# Altium schematic symbol library WE-PD.SchLib: 360 symbols (part 1 of 7)
Pins are listed as number, name and electrical type; pins without a type are passive.

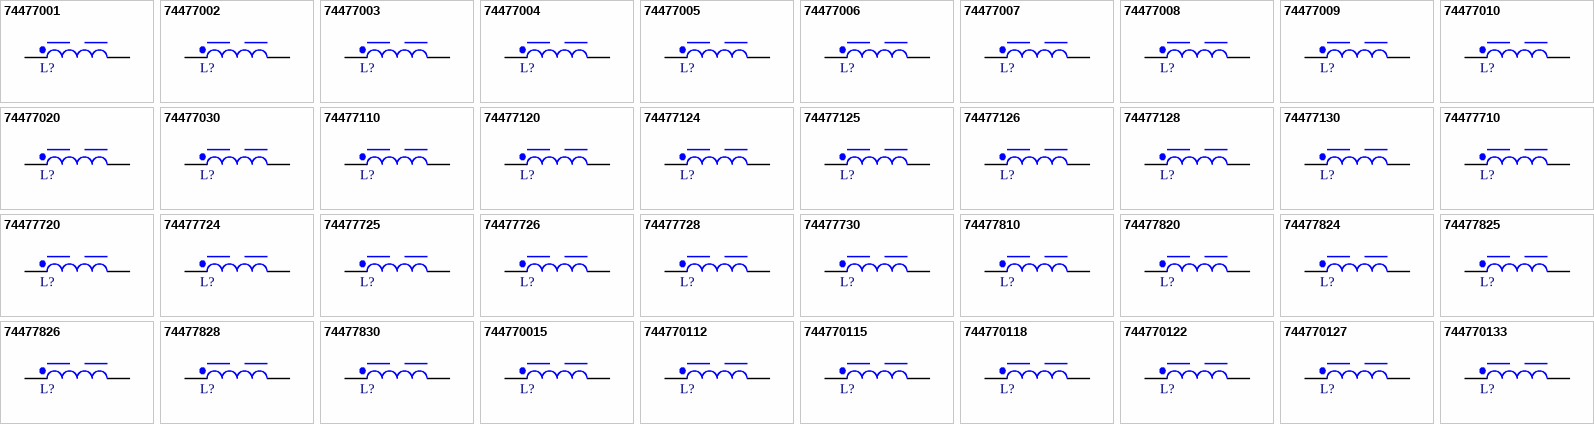
[diagram p0: symbols 74477001 to 744770133]

## 74477001
designator L?, comment 1.2uH, 13.5A  (value not drawn)
WE-PD SMT Power Inductor, size 1280, 1.2uH, 13.5A, 7mOhm; Manufacturer Part Number: 74477001; Manufacturer: Wurth Elektronik; Case/Size Code: 1280; DC Resistance: 4.6mOhm; Saturation Current: 21A; Self Resonant Frequency: 45MHz; Type: Standard; Category: Power Inductors; Match Code: WE-PD; ComponentLink1Description: Website Link; ComponentLink1URL: https://www.we-online.com/redexpert/article/74477001?ad; ComponentLink2Description: Datasheet Link; ComponentLink2URL: https://www.we-online.com/redexpert/spec/74477001?ad; Mount: Surface Mount; Operating Temperature Max: 125°C; Operating Temperature Min: -40°C; Packaging: Tape and Reel; Length: 12mm; Width: 12mm; Height: 8mm; DC Resistance Max: 7mOhm; Inductance: 1.2uH; Rated Current: 13.5A
footprint WE-PD_1280
simulation model 1280_74477001_1.2u
pins: 1, 2

## 74477002
designator L?, comment 2.4uH, 11.5A  (value not drawn)
WE-PD SMT Power Inductor, size 1280, 2.4uH, 11.5A, 9mOhm; Manufacturer Part Number: 74477002; Manufacturer: Wurth Elektronik; Case/Size Code: 1280; DC Resistance: 6.3mOhm; Saturation Current: 15A; Self Resonant Frequency: 41MHz; Type: Standard; Category: Power Inductors; Match Code: WE-PD; ComponentLink1Description: Website Link; ComponentLink1URL: https://www.we-online.com/redexpert/article/74477002?ad; ComponentLink2Description: Datasheet Link; ComponentLink2URL: https://www.we-online.com/redexpert/spec/74477002?ad; Mount: Surface Mount; Operating Temperature Max: 125°C; Operating Temperature Min: -40°C; Packaging: Tape and Reel; Length: 12mm; Width: 12mm; Height: 8mm; DC Resistance Max: 9mOhm; Inductance: 2.4uH; Rated Current: 11.5A
footprint WE-PD_1280
simulation model 1280_74477002_2.4u
pins: 1, 2

## 74477003
designator L?, comment 3.5uH, 10.2A  (value not drawn)
WE-PD SMT Power Inductor, size 1280, 3.5uH, 10.2A, 11mOhm; Manufacturer Part Number: 74477003; Manufacturer: Wurth Elektronik; Case/Size Code: 1280; DC Resistance: 8mOhm; Saturation Current: 12.5A; Self Resonant Frequency: 37.5MHz; Type: Standard; Category: Power Inductors; Match Code: WE-PD; ComponentLink1Description: Website Link; ComponentLink1URL: https://www.we-online.com/redexpert/article/74477003?ad; ComponentLink2Description: Datasheet Link; ComponentLink2URL: https://www.we-online.com/redexpert/spec/74477003?ad; Mount: Surface Mount; Operating Temperature Max: 125°C; Operating Temperature Min: -40°C; Packaging: Tape and Reel; Length: 12mm; Width: 12mm; Height: 8mm; DC Resistance Max: 11mOhm; Inductance: 3.5uH; Rated Current: 10.2A
footprint WE-PD_1280
simulation model 1280_74477003_3.5u
pins: 1, 2

## 74477004
designator L?, comment 4.7uH, 9.5A  (value not drawn)
WE-PD SMT Power Inductor, size 1280, 4.7uH, 9.5A, 12mOhm; Manufacturer Part Number: 74477004; Manufacturer: Wurth Elektronik; Case/Size Code: 1280; DC Resistance: 9mOhm; Saturation Current: 11A; Self Resonant Frequency: 31.2MHz; Type: Standard; Category: Power Inductors; Match Code: WE-PD; ComponentLink1Description: Website Link; ComponentLink1URL: https://www.we-online.com/redexpert/article/74477004?ad; ComponentLink2Description: Datasheet Link; ComponentLink2URL: https://www.we-online.com/redexpert/spec/74477004?ad; Mount: Surface Mount; Operating Temperature Max: 125°C; Operating Temperature Min: -40°C; Packaging: Tape and Reel; Length: 12mm; Width: 12mm; Height: 8mm; DC Resistance Max: 12mOhm; Inductance: 4.7uH; Rated Current: 9.5A
footprint WE-PD_1280
simulation model 1280_74477004_4.7u
pins: 1, 2

## 74477005
designator L?, comment 5.6uH, 8.7A  (value not drawn)
WE-PD SMT Power Inductor, size 1280, 5.6uH, 8.7A, 13.5mOhm; Manufacturer Part Number: 74477005; Manufacturer: Wurth Elektronik; Case/Size Code: 1280; DC Resistance: 10.5mOhm; Saturation Current: 10A; Self Resonant Frequency: 24MHz; Type: Standard; Category: Power Inductors; Match Code: WE-PD; ComponentLink1Description: Website Link; ComponentLink1URL: https://www.we-online.com/redexpert/article/74477005?ad; ComponentLink2Description: Datasheet Link; ComponentLink2URL: https://www.we-online.com/redexpert/spec/74477005?ad; Mount: Surface Mount; Operating Temperature Max: 125°C; Operating Temperature Min: -40°C; Packaging: Tape and Reel; Length: 12mm; Width: 12mm; Height: 8mm; DC Resistance Max: 13.5mOhm; Inductance: 5.6uH; Rated Current: 8.7A
footprint WE-PD_1280
simulation model 1280_74477005_5.6u
pins: 1, 2

## 74477006
designator L?, comment 6.1uH, 8.5A  (value not drawn)
WE-PD SMT Power Inductor, size 1280, 6.1uH, 8.5A, 14mOhm; Manufacturer Part Number: 74477006; Manufacturer: Wurth Elektronik; Case/Size Code: 1280; DC Resistance: 11mOhm; Saturation Current: 9.5A; Self Resonant Frequency: 25MHz; Type: Standard; Category: Power Inductors; Match Code: WE-PD; ComponentLink1Description: Website Link; ComponentLink1URL: https://www.we-online.com/redexpert/article/74477006?ad; ComponentLink2Description: Datasheet Link; ComponentLink2URL: https://www.we-online.com/redexpert/spec/74477006?ad; Mount: Surface Mount; Operating Temperature Max: 125°C; Operating Temperature Min: -40°C; Packaging: Tape and Reel; Length: 12mm; Width: 12mm; Height: 8mm; DC Resistance Max: 14mOhm; Inductance: 6.1uH; Rated Current: 8.5A
footprint WE-PD_1280
simulation model 1280_74477006_6.1u
pins: 1, 2

## 74477007
designator L?, comment 7.6uH, 8.4A  (value not drawn)
WE-PD SMT Power Inductor, size 1280, 7.6uH, 8.4A, 15mOhm; Manufacturer Part Number: 74477007; Manufacturer: Wurth Elektronik; Case/Size Code: 1280; DC Resistance: 11.5mOhm; Saturation Current: 8.5A; Self Resonant Frequency: 21.3MHz; Type: Standard; Category: Power Inductors; Match Code: WE-PD; ComponentLink1Description: Website Link; ComponentLink1URL: https://www.we-online.com/redexpert/article/74477007?ad; ComponentLink2Description: Datasheet Link; ComponentLink2URL: https://www.we-online.com/redexpert/spec/74477007?ad; Mount: Surface Mount; Operating Temperature Max: 125°C; Operating Temperature Min: -40°C; Packaging: Tape and Reel; Length: 12mm; Width: 12mm; Height: 8mm; DC Resistance Max: 15mOhm; Inductance: 7.6uH; Rated Current: 8.4A
footprint WE-PD_1280
simulation model 1280_74477007_7.6u
pins: 1, 2

## 74477008
designator L?, comment 0.75uH, 17A  (value not drawn)
WE-PD SMT Power Inductor, size 1280, 0.75uH, 17A, 5mOhm; Manufacturer Part Number: 74477008; Manufacturer: Wurth Elektronik; Case/Size Code: 1280; DC Resistance: 3.2mOhm; Saturation Current: 27A; Self Resonant Frequency: 110MHz; Type: Standard; Category: Power Inductors; Match Code: WE-PD; ComponentLink1Description: Website Link; ComponentLink1URL: https://www.we-online.com/redexpert/article/74477008?ad; ComponentLink2Description: Datasheet Link; ComponentLink2URL: https://www.we-online.com/redexpert/spec/74477008?ad; Mount: Surface Mount; Operating Temperature Max: 125°C; Operating Temperature Min: -40°C; Packaging: Tape and Reel; Length: 12mm; Width: 12mm; Height: 8mm; DC Resistance Max: 5mOhm; Inductance: 0.75uH; Rated Current: 17A
footprint WE-PD_1280
simulation model 1280_74477008_0.75u
pins: 1, 2

## 74477009
designator L?, comment 0.47uH, 23.5A  (value not drawn)
WE-PD SMT Power Inductor, size 1280, 0.47uH, 23.5A, 3mOhm; Manufacturer Part Number: 74477009; Manufacturer: Wurth Elektronik; Case/Size Code: 1280; DC Resistance: 1.7mOhm; Saturation Current: 34A; Self Resonant Frequency: 120MHz; Type: Standard; Category: Power Inductors; Match Code: WE-PD; ComponentLink1Description: Website Link; ComponentLink1URL: https://www.we-online.com/redexpert/article/74477009?ad; ComponentLink2Description: Datasheet Link; ComponentLink2URL: https://www.we-online.com/redexpert/spec/74477009?ad; Mount: Surface Mount; Operating Temperature Max: 125°C; Operating Temperature Min: -40°C; Packaging: Tape and Reel; Length: 12mm; Width: 12mm; Height: 8mm; DC Resistance Max: 3mOhm; Inductance: 0.47uH; Rated Current: 23.5A
footprint WE-PD_1280
simulation model 1280_74477009_0.47u
pins: 1, 2

## 74477010
designator L?, comment 10uH, 7A  (value not drawn)
WE-PD SMT Power Inductor, size 1280, 10uH, 7A, 20mOhm; Manufacturer Part Number: 74477010; Manufacturer: Wurth Elektronik; Case/Size Code: 1280; DC Resistance: 15mOhm; Saturation Current: 7.5A; Self Resonant Frequency: 18MHz; Type: Standard; Category: Power Inductors; Match Code: WE-PD; ComponentLink1Description: Website Link; ComponentLink1URL: https://www.we-online.com/redexpert/article/74477010?ad; ComponentLink2Description: Datasheet Link; ComponentLink2URL: https://www.we-online.com/redexpert/spec/74477010?ad; Mount: Surface Mount; Operating Temperature Max: 125°C; Operating Temperature Min: -40°C; Packaging: Tape and Reel; Length: 12mm; Width: 12mm; Height: 8mm; DC Resistance Max: 20mOhm; Inductance: 10uH; Rated Current: 7A
footprint WE-PD_1280
simulation model 1280_74477010_10u
pins: 1, 2

## 74477020
designator L?, comment 100uH, 2.2A  (value not drawn)
WE-PD SMT Power Inductor, size 1280, 100uH, 2.2A, 140mOhm; Manufacturer Part Number: 74477020; Manufacturer: Wurth Elektronik; Case/Size Code: 1280; DC Resistance: 117mOhm; Saturation Current: 2.4A; Self Resonant Frequency: 5.2MHz; Type: Standard; Category: Power Inductors; Match Code: WE-PD; ComponentLink1Description: Website Link; ComponentLink1URL: https://www.we-online.com/redexpert/article/74477020?ad; ComponentLink2Description: Datasheet Link; ComponentLink2URL: https://www.we-online.com/redexpert/spec/74477020?ad; Mount: Surface Mount; Operating Temperature Max: 125°C; Operating Temperature Min: -40°C; Packaging: Tape and Reel; Length: 12mm; Width: 12mm; Height: 8mm; DC Resistance Max: 140mOhm; Inductance: 100uH; Rated Current: 2.2A
footprint WE-PD_1280
simulation model 1280_74477020_100u
pins: 1, 2

## 74477030
designator L?, comment 1000uH, 0.65A  (value not drawn)
WE-PD SMT Power Inductor, size 1280, 1000uH, 0.65A, 1180mOhm; Manufacturer Part Number: 74477030; Manufacturer: Wurth Elektronik; Case/Size Code: 1280; DC Resistance: 980mOhm; Saturation Current: 0.7A; Self Resonant Frequency: 1.8MHz; Type: Standard; Category: Power Inductors; Match Code: WE-PD; ComponentLink1Description: Website Link; ComponentLink1URL: https://www.we-online.com/redexpert/article/74477030?ad; ComponentLink2Description: Datasheet Link; ComponentLink2URL: https://www.we-online.com/redexpert/spec/74477030?ad; Mount: Surface Mount; Operating Temperature Max: 125°C; Operating Temperature Min: -40°C; Packaging: Tape and Reel; Length: 12mm; Width: 12mm; Height: 8mm; DC Resistance Max: 1180mOhm; Inductance: 1000uH; Rated Current: 0.65A
footprint WE-PD_1280
simulation model 1280_74477030_1000u
pins: 1, 2

## 74477110
designator L?, comment 10uH, 5A  (value not drawn)
WE-PD SMT Power Inductor, size 1260, 10uH, 5A, 24mOhm; Manufacturer Part Number: 74477110; Manufacturer: Wurth Elektronik; Case/Size Code: 1260; DC Resistance: 18.5mOhm; Saturation Current: 5.5A; Self Resonant Frequency: 21.5MHz; Type: Standard; Category: Power Inductors; Match Code: WE-PD; ComponentLink1Description: Website Link; ComponentLink1URL: https://www.we-online.com/redexpert/article/74477110?ad; ComponentLink2Description: Datasheet Link; ComponentLink2URL: https://www.we-online.com/redexpert/spec/74477110?ad; Mount: Surface Mount; Operating Temperature Max: 125°C; Operating Temperature Min: -40°C; Packaging: Tape and Reel; Length: 12mm; Width: 12mm; Height: 6mm; DC Resistance Max: 24mOhm; Inductance: 10uH; Rated Current: 5A
footprint WE-PD_1260
simulation model 1260_74477110_10u
pins: 1, 2

## 74477120
designator L?, comment 100uH, 1.6A  (value not drawn)
WE-PD SMT Power Inductor, size 1260, 100uH, 1.6A, 160mOhm; Manufacturer Part Number: 74477120; Manufacturer: Wurth Elektronik; Case/Size Code: 1260; DC Resistance: 135mOhm; Saturation Current: 1.7A; Self Resonant Frequency: 6.6MHz; Type: Standard; Category: Power Inductors; Match Code: WE-PD; ComponentLink1Description: Website Link; ComponentLink1URL: https://www.we-online.com/redexpert/article/74477120?ad; ComponentLink2Description: Datasheet Link; ComponentLink2URL: https://www.we-online.com/redexpert/spec/74477120?ad; Mount: Surface Mount; Operating Temperature Max: 125°C; Operating Temperature Min: -40°C; Packaging: Tape and Reel; Length: 12mm; Width: 12mm; Height: 6mm; DC Resistance Max: 160mOhm; Inductance: 100uH; Rated Current: 1.6A
footprint WE-PD_1260
simulation model 1260_74477120_100u
pins: 1, 2

## 74477124
designator L?, comment 470uH, 0.7A  (value not drawn)
WE-PD SMT Power Inductor, size 1260, 470uH, 0.7A, 710mOhm; Manufacturer Part Number: 74477124; Manufacturer: Wurth Elektronik; Case/Size Code: 1260; DC Resistance: 590mOhm; Saturation Current: 0.8A; Self Resonant Frequency: 2.6MHz; Type: Standard; Category: Power Inductors; Match Code: WE-PD; ComponentLink1Description: Website Link; ComponentLink1URL: https://www.we-online.com/redexpert/article/74477124?ad; ComponentLink2Description: Datasheet Link; ComponentLink2URL: https://www.we-online.com/redexpert/spec/74477124?ad; Mount: Surface Mount; Operating Temperature Max: 125°C; Operating Temperature Min: -40°C; Packaging: Tape and Reel; Length: 12mm; Width: 12mm; Height: 6mm; DC Resistance Max: 710mOhm; Inductance: 470uH; Rated Current: 0.7A
footprint WE-PD_1260
simulation model 1260_74477124_470u
pins: 1, 2

## 74477125
designator L?, comment 560uH, 0.65A  (value not drawn)
WE-PD SMT Power Inductor, size 1260, 560uH, 0.65A, 890mOhm; Manufacturer Part Number: 74477125; Manufacturer: Wurth Elektronik; Case/Size Code: 1260; DC Resistance: 740mOhm; Saturation Current: 0.7A; Self Resonant Frequency: 2.5MHz; Type: Standard; Category: Power Inductors; Match Code: WE-PD; ComponentLink1Description: Website Link; ComponentLink1URL: https://www.we-online.com/redexpert/article/74477125?ad; ComponentLink2Description: Datasheet Link; ComponentLink2URL: https://www.we-online.com/redexpert/spec/74477125?ad; Mount: Surface Mount; Operating Temperature Max: 125°C; Operating Temperature Min: -40°C; Packaging: Tape and Reel; Length: 12mm; Width: 12mm; Height: 6mm; DC Resistance Max: 890mOhm; Inductance: 560uH; Rated Current: 0.65A
footprint WE-PD_1260
simulation model 1260_74477125_560u
pins: 1, 2

## 74477126
designator L?, comment 680uH, 0.6A  (value not drawn)
WE-PD SMT Power Inductor, size 1260, 680uH, 0.6A, 1020mOhm; Manufacturer Part Number: 74477126; Manufacturer: Wurth Elektronik; Case/Size Code: 1260; DC Resistance: 850mOhm; Saturation Current: 0.68A; Self Resonant Frequency: 2.3MHz; Type: Standard; Category: Power Inductors; Match Code: WE-PD; ComponentLink1Description: Website Link; ComponentLink1URL: https://www.we-online.com/redexpert/article/74477126?ad; ComponentLink2Description: Datasheet Link; ComponentLink2URL: https://www.we-online.com/redexpert/spec/74477126?ad; Mount: Surface Mount; Operating Temperature Max: 125°C; Operating Temperature Min: -40°C; Packaging: Tape and Reel; Length: 12mm; Width: 12mm; Height: 6mm; DC Resistance Max: 1020mOhm; Inductance: 680uH; Rated Current: 0.6A
footprint WE-PD_1260
simulation model 1260_74477126_680u
pins: 1, 2

## 74477128
designator L?, comment 820uH, 0.55A  (value not drawn)
WE-PD SMT Power Inductor, size 1260, 820uH, 0.55A, 1200mOhm; Manufacturer Part Number: 74477128; Manufacturer: Wurth Elektronik; Case/Size Code: 1260; DC Resistance: 980mOhm; Saturation Current: 0.6A; Self Resonant Frequency: 2.1MHz; Type: Standard; Category: Power Inductors; Match Code: WE-PD; ComponentLink1Description: Website Link; ComponentLink1URL: https://www.we-online.com/redexpert/article/74477128?ad; ComponentLink2Description: Datasheet Link; ComponentLink2URL: https://www.we-online.com/redexpert/spec/74477128?ad; Mount: Surface Mount; Operating Temperature Max: 125°C; Operating Temperature Min: -40°C; Packaging: Tape and Reel; Length: 12mm; Width: 12mm; Height: 6mm; DC Resistance Max: 1200mOhm; Inductance: 820uH; Rated Current: 0.55A
footprint WE-PD_1260
simulation model 1260_74477128_820u
pins: 1, 2

## 74477130
designator L?, comment 1000uH, 0.5A  (value not drawn)
WE-PD SMT Power Inductor, size 1260, 1000uH, 0.5A, 1600mOhm; Manufacturer Part Number: 74477130; Manufacturer: Wurth Elektronik; Case/Size Code: 1260; DC Resistance: 1330mOhm; Saturation Current: 0.55A; Self Resonant Frequency: 1.9MHz; Type: Standard; Category: Power Inductors; Match Code: WE-PD; ComponentLink1Description: Website Link; ComponentLink1URL: https://www.we-online.com/redexpert/article/74477130?ad; ComponentLink2Description: Datasheet Link; ComponentLink2URL: https://www.we-online.com/redexpert/spec/74477130?ad; Mount: Surface Mount; Operating Temperature Max: 125°C; Operating Temperature Min: -40°C; Packaging: Tape and Reel; Length: 12mm; Width: 12mm; Height: 6mm; DC Resistance Max: 1600mOhm; Inductance: 1000uH; Rated Current: 0.5A
footprint WE-PD_1260
simulation model 1260_74477130_1000u
pins: 1, 2

## 74477710
designator L?, comment 10uH, 2A  (value not drawn)
WE-PD SMT Power Inductor, size 7345, 10uH, 2A, 49mOhm; Manufacturer Part Number: 74477710; Manufacturer: Wurth Elektronik; Case/Size Code: 7345; DC Resistance: 45mOhm; Saturation Current: 2.6A; Self Resonant Frequency: 26MHz; Type: Standard; Category: Power Inductors; Match Code: WE-PD; ComponentLink1Description: Website Link; ComponentLink1URL: https://www.we-online.com/redexpert/article/74477710?ad; ComponentLink2Description: Datasheet Link; ComponentLink2URL: https://www.we-online.com/redexpert/spec/74477710?ad; Mount: Surface Mount; Operating Temperature Max: 125°C; Operating Temperature Min: -40°C; Packaging: Tape and Reel; Length: 7.3mm; Width: 7.3mm; Height: 4.5mm; DC Resistance Max: 49mOhm; Inductance: 10uH; Rated Current: 2A
footprint WE-PD_7345
simulation model 7345_74477710_10u
pins: 1, 2

## 74477720
designator L?, comment 100uH, 0.79A  (value not drawn)
WE-PD SMT Power Inductor, size 7345, 100uH, 0.79A, 610mOhm; Manufacturer Part Number: 74477720; Manufacturer: Wurth Elektronik; Case/Size Code: 7345; DC Resistance: 290mOhm; Saturation Current: 0.75A; Self Resonant Frequency: 7.5MHz; Type: Standard; Category: Power Inductors; Match Code: WE-PD; ComponentLink1Description: Website Link; ComponentLink1URL: https://www.we-online.com/redexpert/article/74477720?ad; ComponentLink2Description: Datasheet Link; ComponentLink2URL: https://www.we-online.com/redexpert/spec/74477720?ad; Mount: Surface Mount; Operating Temperature Max: 125°C; Operating Temperature Min: -40°C; Packaging: Tape and Reel; Length: 7.3mm; Width: 7.3mm; Height: 4.5mm; DC Resistance Max: 610mOhm; Inductance: 100uH; Rated Current: 0.79A
footprint WE-PD_7345
simulation model 7345_74477720_100u
pins: 1, 2

## 74477724
designator L?, comment 470uH, 0.29A  (value not drawn)
WE-PD SMT Power Inductor, size 7345, 470uH, 0.29A, 3010mOhm; Manufacturer Part Number: 74477724; Manufacturer: Wurth Elektronik; Case/Size Code: 7345; DC Resistance: 1600mOhm; Saturation Current: 0.34A; Self Resonant Frequency: 3.2MHz; Type: Standard; Category: Power Inductors; Match Code: WE-PD; ComponentLink1Description: Website Link; ComponentLink1URL: https://www.we-online.com/redexpert/article/74477724?ad; ComponentLink2Description: Datasheet Link; ComponentLink2URL: https://www.we-online.com/redexpert/spec/74477724?ad; Mount: Surface Mount; Operating Temperature Max: 125°C; Operating Temperature Min: -40°C; Packaging: Tape and Reel; Length: 7.3mm; Width: 7.3mm; Height: 4.5mm; DC Resistance Max: 3010mOhm; Inductance: 470uH; Rated Current: 0.29A
footprint WE-PD_7345
simulation model 7345_74477724_470u
pins: 1, 2

## 74477725
designator L?, comment 560uH, 0.28A  (value not drawn)
WE-PD SMT Power Inductor, size 7345, 560uH, 0.28A, 3620mOhm; Manufacturer Part Number: 74477725; Manufacturer: Wurth Elektronik; Case/Size Code: 7345; DC Resistance: 1720mOhm; Saturation Current: 0.31A; Self Resonant Frequency: 3MHz; Type: Standard; Category: Power Inductors; Match Code: WE-PD; ComponentLink1Description: Website Link; ComponentLink1URL: https://www.we-online.com/redexpert/article/74477725?ad; ComponentLink2Description: Datasheet Link; ComponentLink2URL: https://www.we-online.com/redexpert/spec/74477725?ad; Mount: Surface Mount; Operating Temperature Max: 125°C; Operating Temperature Min: -40°C; Packaging: Tape and Reel; Length: 7.3mm; Width: 7.3mm; Height: 4.5mm; DC Resistance Max: 3620mOhm; Inductance: 560uH; Rated Current: 0.28A
footprint WE-PD_7345
simulation model 7345_74477725_560u
pins: 1, 2

## 74477726
designator L?, comment 680uH, 0.23A  (value not drawn)
WE-PD SMT Power Inductor, size 7345, 680uH, 0.23A, 4630mOhm; Manufacturer Part Number: 74477726; Manufacturer: Wurth Elektronik; Case/Size Code: 7345; DC Resistance: 2600mOhm; Saturation Current: 0.28A; Self Resonant Frequency: 2.7MHz; Type: Standard; Category: Power Inductors; Match Code: WE-PD; ComponentLink1Description: Website Link; ComponentLink1URL: https://www.we-online.com/redexpert/article/74477726?ad; ComponentLink2Description: Datasheet Link; ComponentLink2URL: https://www.we-online.com/redexpert/spec/74477726?ad; Mount: Surface Mount; Operating Temperature Max: 125°C; Operating Temperature Min: -40°C; Packaging: Tape and Reel; Length: 7.3mm; Width: 7.3mm; Height: 4.5mm; DC Resistance Max: 4630mOhm; Inductance: 680uH; Rated Current: 0.23A
footprint WE-PD_7345
simulation model 7345_74477726_680u
pins: 1, 2

## 74477728
designator L?, comment 820uH, 0.21A  (value not drawn)
WE-PD SMT Power Inductor, size 7345, 820uH, 0.21A, 5200mOhm; Manufacturer Part Number: 74477728; Manufacturer: Wurth Elektronik; Case/Size Code: 7345; DC Resistance: 3000mOhm; Saturation Current: 0.26A; Self Resonant Frequency: 2.5MHz; Type: Standard; Category: Power Inductors; Match Code: WE-PD; ComponentLink1Description: Website Link; ComponentLink1URL: https://www.we-online.com/redexpert/article/74477728?ad; ComponentLink2Description: Datasheet Link; ComponentLink2URL: https://www.we-online.com/redexpert/spec/74477728?ad; Mount: Surface Mount; Operating Temperature Max: 125°C; Operating Temperature Min: -40°C; Packaging: Tape and Reel; Length: 7.3mm; Width: 7.3mm; Height: 4.5mm; DC Resistance Max: 5200mOhm; Inductance: 820uH; Rated Current: 0.21A
footprint WE-PD_7345
simulation model 7345_74477728_820u
pins: 1, 2

## 74477730
designator L?, comment 1000uH, 0.2A  (value not drawn)
WE-PD SMT Power Inductor, size 7345, 1000uH, 0.2A, 6000mOhm; Manufacturer Part Number: 74477730; Manufacturer: Wurth Elektronik; Case/Size Code: 7345; DC Resistance: 3270mOhm; Saturation Current: 0.25A; Self Resonant Frequency: 2.2MHz; Type: Standard; Category: Power Inductors; Match Code: WE-PD; ComponentLink1Description: Website Link; ComponentLink1URL: https://www.we-online.com/redexpert/article/74477730?ad; ComponentLink2Description: Datasheet Link; ComponentLink2URL: https://www.we-online.com/redexpert/spec/74477730?ad; Mount: Surface Mount; Operating Temperature Max: 125°C; Operating Temperature Min: -40°C; Packaging: Tape and Reel; Length: 7.3mm; Width: 7.3mm; Height: 4.5mm; DC Resistance Max: 6000mOhm; Inductance: 1000uH; Rated Current: 0.2A
footprint WE-PD_7345
simulation model 7345_74477730_1000u
pins: 1, 2

## 74477810
designator L?, comment 10uH, 1.83A  (value not drawn)
WE-PD SMT Power Inductor, size 7332, 10uH, 1.83A, 72mOhm; Manufacturer Part Number: 74477810; Manufacturer: Wurth Elektronik; Case/Size Code: 7332; DC Resistance: 68mOhm; Saturation Current: 2.2A; Self Resonant Frequency: 32MHz; Type: Standard; Category: Power Inductors; Match Code: WE-PD; ComponentLink1Description: Website Link; ComponentLink1URL: https://www.we-online.com/redexpert/article/74477810?ad; ComponentLink2Description: Datasheet Link; ComponentLink2URL: https://www.we-online.com/redexpert/spec/74477810?ad; Mount: Surface Mount; Operating Temperature Max: 125°C; Operating Temperature Min: -40°C; Packaging: Tape and Reel; Length: 7.3mm; Width: 7.3mm; Height: 3.2mm; DC Resistance Max: 72mOhm; Inductance: 10uH; Rated Current: 1.83A
footprint WE-PD_7332
simulation model 7332_74477810_10u
pins: 1, 2

## 74477820
designator L?, comment 100uH, 0.62A  (value not drawn)
WE-PD SMT Power Inductor, size 7332, 100uH, 0.62A, 790mOhm; Manufacturer Part Number: 74477820; Manufacturer: Wurth Elektronik; Case/Size Code: 7332; DC Resistance: 580mOhm; Saturation Current: 0.76A; Self Resonant Frequency: 9MHz; Type: Standard; Category: Power Inductors; Match Code: WE-PD; ComponentLink1Description: Website Link; ComponentLink1URL: https://www.we-online.com/redexpert/article/74477820?ad; ComponentLink2Description: Datasheet Link; ComponentLink2URL: https://www.we-online.com/redexpert/spec/74477820?ad; Mount: Surface Mount; Operating Temperature Max: 125°C; Operating Temperature Min: -40°C; Packaging: Tape and Reel; Length: 7.3mm; Width: 7.3mm; Height: 3.2mm; DC Resistance Max: 790mOhm; Inductance: 100uH; Rated Current: 0.62A
footprint WE-PD_7332
simulation model 7332_74477820_100u
pins: 1, 2

## 74477824
designator L?, comment 470uH, 0.3A  (value not drawn)
WE-PD SMT Power Inductor, size 7332, 470uH, 0.3A, 4180mOhm; Manufacturer Part Number: 74477824; Manufacturer: Wurth Elektronik; Case/Size Code: 7332; DC Resistance: 2600mOhm; Saturation Current: 0.31A; Self Resonant Frequency: 4MHz; Type: Standard; Category: Power Inductors; Match Code: WE-PD; ComponentLink1Description: Website Link; ComponentLink1URL: https://www.we-online.com/redexpert/article/74477824?ad; ComponentLink2Description: Datasheet Link; ComponentLink2URL: https://www.we-online.com/redexpert/spec/74477824?ad; Mount: Surface Mount; Operating Temperature Max: 125°C; Operating Temperature Min: -40°C; Packaging: Tape and Reel; Length: 7.3mm; Width: 7.3mm; Height: 3.2mm; DC Resistance Max: 4180mOhm; Inductance: 470uH; Rated Current: 0.3A
footprint WE-PD_7332
simulation model 7332_74477824_470u
pins: 1, 2

## 74477825
designator L?, comment 560uH, 0.27A  (value not drawn)
WE-PD SMT Power Inductor, size 7332, 560uH, 0.27A, 4670mOhm; Manufacturer Part Number: 74477825; Manufacturer: Wurth Elektronik; Case/Size Code: 7332; DC Resistance: 3000mOhm; Saturation Current: 0.3A; Self Resonant Frequency: 3.7MHz; Type: Standard; Category: Power Inductors; Match Code: WE-PD; ComponentLink1Description: Website Link; ComponentLink1URL: https://www.we-online.com/redexpert/article/74477825?ad; ComponentLink2Description: Datasheet Link; ComponentLink2URL: https://www.we-online.com/redexpert/spec/74477825?ad; Mount: Surface Mount; Operating Temperature Max: 125°C; Operating Temperature Min: -40°C; Packaging: Tape and Reel; Length: 7.3mm; Width: 7.3mm; Height: 3.2mm; DC Resistance Max: 4670mOhm; Inductance: 560uH; Rated Current: 0.27A
footprint WE-PD_7332
simulation model 7332_74477825_560u
pins: 1, 2

## 74477826
designator L?, comment 680uH, 0.22A  (value not drawn)
WE-PD SMT Power Inductor, size 7332, 680uH, 0.22A, 5730mOhm; Manufacturer Part Number: 74477826; Manufacturer: Wurth Elektronik; Case/Size Code: 7332; DC Resistance: 4500mOhm; Self Resonant Frequency: 3.4MHz; Type: Standard; Category: Power Inductors; Match Code: WE-PD; ComponentLink1Description: Website Link; ComponentLink1URL: https://www.we-online.com/redexpert/article/74477826?ad; ComponentLink2Description: Datasheet Link; ComponentLink2URL: https://www.we-online.com/redexpert/spec/74477826?ad; Mount: Surface Mount; Operating Temperature Max: 125°C; Operating Temperature Min: -40°C; Packaging: Tape and Reel; Length: 7.3mm; Width: 7.3mm; Height: 3.2mm; DC Resistance Max: 5730mOhm; Inductance: 680uH; Rated Current: 0.22A; Saturation Current: 0.22A
footprint WE-PD_7332
simulation model 7332_74477826_680u
pins: 1, 2

## 74477828
designator L?, comment 820uH, 0.21A  (value not drawn)
WE-PD SMT Power Inductor, size 7332, 820uH, 0.21A, 6500mOhm; Manufacturer Part Number: 74477828; Manufacturer: Wurth Elektronik; Case/Size Code: 7332; DC Resistance: 5070mOhm; Saturation Current: 0.2A; Self Resonant Frequency: 2.8MHz; Type: Standard; Category: Power Inductors; Match Code: WE-PD; ComponentLink1Description: Website Link; ComponentLink1URL: https://www.we-online.com/redexpert/article/74477828?ad; ComponentLink2Description: Datasheet Link; ComponentLink2URL: https://www.we-online.com/redexpert/spec/74477828?ad; Mount: Surface Mount; Operating Temperature Max: 125°C; Operating Temperature Min: -40°C; Packaging: Tape and Reel; Length: 7.3mm; Width: 7.3mm; Height: 3.2mm; DC Resistance Max: 6500mOhm; Inductance: 820uH; Rated Current: 0.21A
footprint WE-PD_7332
simulation model 7332_74477828_820u
pins: 1, 2

## 74477830
designator L?, comment 1000uH, 0.2A  (value not drawn)
WE-PD SMT Power Inductor, size 7332, 1000uH, 0.2A, 9440mOhm; Manufacturer Part Number: 74477830; Manufacturer: Wurth Elektronik; Case/Size Code: 7332; DC Resistance: 5570mOhm; Saturation Current: 0.18A; Self Resonant Frequency: 2.6MHz; Type: Standard; Category: Power Inductors; Match Code: WE-PD; ComponentLink1Description: Website Link; ComponentLink1URL: https://www.we-online.com/redexpert/article/74477830?ad; ComponentLink2Description: Datasheet Link; ComponentLink2URL: https://www.we-online.com/redexpert/spec/74477830?ad; Mount: Surface Mount; Operating Temperature Max: 125°C; Operating Temperature Min: -40°C; Packaging: Tape and Reel; Length: 7.3mm; Width: 7.3mm; Height: 3.2mm; DC Resistance Max: 9440mOhm; Inductance: 1000uH; Rated Current: 0.2A
footprint WE-PD_7332
simulation model 7332_74477830_1000u
pins: 1, 2

## 744770015
designator L?, comment 1.5uH, 16.5A  (value not drawn)
WE-PD SMT Power Inductor, size 1280, 1.5uH, 16.5A, 5mOhm; Manufacturer Part Number: 744770015; Manufacturer: Wurth Elektronik; Case/Size Code: 1280; DC Resistance: 3.2mOhm; Saturation Current: 19A; Self Resonant Frequency: 42MHz; Type: Standard; Category: Power Inductors; Match Code: WE-PD; ComponentLink1Description: Website Link; ComponentLink1URL: https://www.we-online.com/redexpert/article/744770015?ad; ComponentLink2Description: Datasheet Link; ComponentLink2URL: https://www.we-online.com/redexpert/spec/744770015?ad; Mount: Surface Mount; Operating Temperature Max: 125°C; Operating Temperature Min: -40°C; Packaging: Tape and Reel; Length: 12mm; Width: 12mm; Height: 8mm; DC Resistance Max: 5mOhm; Inductance: 1.5uH; Rated Current: 16.5A
footprint WE-PD_1280
simulation model 1280_744770015_1.5u
pins: 1, 2

## 744770112
designator L?, comment 12uH, 6.2A  (value not drawn)
WE-PD SMT Power Inductor, size 1280, 12uH, 6.2A, 21mOhm; Manufacturer Part Number: 744770112; Manufacturer: Wurth Elektronik; Case/Size Code: 1280; DC Resistance: 16mOhm; Saturation Current: 6.5A; Self Resonant Frequency: 16MHz; Type: Standard; Category: Power Inductors; Match Code: WE-PD; ComponentLink1Description: Website Link; ComponentLink1URL: https://www.we-online.com/redexpert/article/744770112?ad; ComponentLink2Description: Datasheet Link; ComponentLink2URL: https://www.we-online.com/redexpert/spec/744770112?ad; Mount: Surface Mount; Operating Temperature Max: 125°C; Operating Temperature Min: -40°C; Packaging: Tape and Reel; Length: 12mm; Width: 12mm; Height: 8mm; DC Resistance Max: 21mOhm; Inductance: 12uH; Rated Current: 6.2A
footprint WE-PD_1280
simulation model 1280_744770112_12u
pins: 1, 2

## 744770115
designator L?, comment 15uH, 5.8A  (value not drawn)
WE-PD SMT Power Inductor, size 1280, 15uH, 5.8A, 23mOhm; Manufacturer Part Number: 744770115; Manufacturer: Wurth Elektronik; Case/Size Code: 1280; DC Resistance: 18mOhm; Saturation Current: 6A; Self Resonant Frequency: 14.5MHz; Type: Standard; Category: Power Inductors; Match Code: WE-PD; ComponentLink1Description: Website Link; ComponentLink1URL: https://www.we-online.com/redexpert/article/744770115?ad; ComponentLink2Description: Datasheet Link; ComponentLink2URL: https://www.we-online.com/redexpert/spec/744770115?ad; Mount: Surface Mount; Operating Temperature Max: 125°C; Operating Temperature Min: -40°C; Packaging: Tape and Reel; Length: 12mm; Width: 12mm; Height: 8mm; DC Resistance Max: 23mOhm; Inductance: 15uH; Rated Current: 5.8A
footprint WE-PD_1280
simulation model 1280_744770115_15u
pins: 1, 2

## 744770118
designator L?, comment 18uH, 5A  (value not drawn)
WE-PD SMT Power Inductor, size 1280, 18uH, 5A, 32mOhm; Manufacturer Part Number: 744770118; Manufacturer: Wurth Elektronik; Case/Size Code: 1280; DC Resistance: 25mOhm; Saturation Current: 5.4A; Self Resonant Frequency: 13.2MHz; Type: Standard; Category: Power Inductors; Match Code: WE-PD; ComponentLink1Description: Website Link; ComponentLink1URL: https://www.we-online.com/redexpert/article/744770118?ad; ComponentLink2Description: Datasheet Link; ComponentLink2URL: https://www.we-online.com/redexpert/spec/744770118?ad; Mount: Surface Mount; Operating Temperature Max: 125°C; Operating Temperature Min: -40°C; Packaging: Tape and Reel; Length: 12mm; Width: 12mm; Height: 8mm; DC Resistance Max: 32mOhm; Inductance: 18uH; Rated Current: 5A
footprint WE-PD_1280
simulation model 1280_744770118_18u
pins: 1, 2

## 744770122
designator L?, comment 22uH, 4.6A  (value not drawn)
WE-PD SMT Power Inductor, size 1280, 22uH, 4.6A, 35mOhm; Manufacturer Part Number: 744770122; Manufacturer: Wurth Elektronik; Case/Size Code: 1280; DC Resistance: 29mOhm; Saturation Current: 5A; Self Resonant Frequency: 12MHz; Type: Standard; Category: Power Inductors; Match Code: WE-PD; ComponentLink1Description: Website Link; ComponentLink1URL: https://www.we-online.com/redexpert/article/744770122?ad; ComponentLink2Description: Datasheet Link; ComponentLink2URL: https://www.we-online.com/redexpert/spec/744770122?ad; Mount: Surface Mount; Operating Temperature Max: 125°C; Operating Temperature Min: -40°C; Packaging: Tape and Reel; Length: 12mm; Width: 12mm; Height: 8mm; DC Resistance Max: 35mOhm; Inductance: 22uH; Rated Current: 4.6A
footprint WE-PD_1280
simulation model 1280_744770122_22u
pins: 1, 2

## 744770127
designator L?, comment 27uH, 4.2A  (value not drawn)
WE-PD SMT Power Inductor, size 1280, 27uH, 4.2A, 38mOhm; Manufacturer Part Number: 744770127; Manufacturer: Wurth Elektronik; Case/Size Code: 1280; DC Resistance: 31mOhm; Saturation Current: 4.3A; Self Resonant Frequency: 10MHz; Type: Standard; Category: Power Inductors; Match Code: WE-PD; ComponentLink1Description: Website Link; ComponentLink1URL: https://www.we-online.com/redexpert/article/744770127?ad; ComponentLink2Description: Datasheet Link; ComponentLink2URL: https://www.we-online.com/redexpert/spec/744770127?ad; Mount: Surface Mount; Operating Temperature Max: 125°C; Operating Temperature Min: -40°C; Packaging: Tape and Reel; Length: 12mm; Width: 12mm; Height: 8mm; DC Resistance Max: 38mOhm; Inductance: 27uH; Rated Current: 4.2A
footprint WE-PD_1280
simulation model 1280_744770127_27u
pins: 1, 2

## 744770133
designator L?, comment 33uH, 3.6A  (value not drawn)
WE-PD SMT Power Inductor, size 1280, 33uH, 3.6A, 53mOhm; Manufacturer Part Number: 744770133; Manufacturer: Wurth Elektronik; Case/Size Code: 1280; DC Resistance: 44mOhm; Saturation Current: 3.9A; Self Resonant Frequency: 8.5MHz; Type: Standard; Category: Power Inductors; Match Code: WE-PD; ComponentLink1Description: Website Link; ComponentLink1URL: https://www.we-online.com/redexpert/article/744770133?ad; ComponentLink2Description: Datasheet Link; ComponentLink2URL: https://www.we-online.com/redexpert/spec/744770133?ad; Mount: Surface Mount; Operating Temperature Max: 125°C; Operating Temperature Min: -40°C; Packaging: Tape and Reel; Length: 12mm; Width: 12mm; Height: 8mm; DC Resistance Max: 53mOhm; Inductance: 33uH; Rated Current: 3.6A
footprint WE-PD_1280
simulation model 1280_744770133_33u
pins: 1, 2

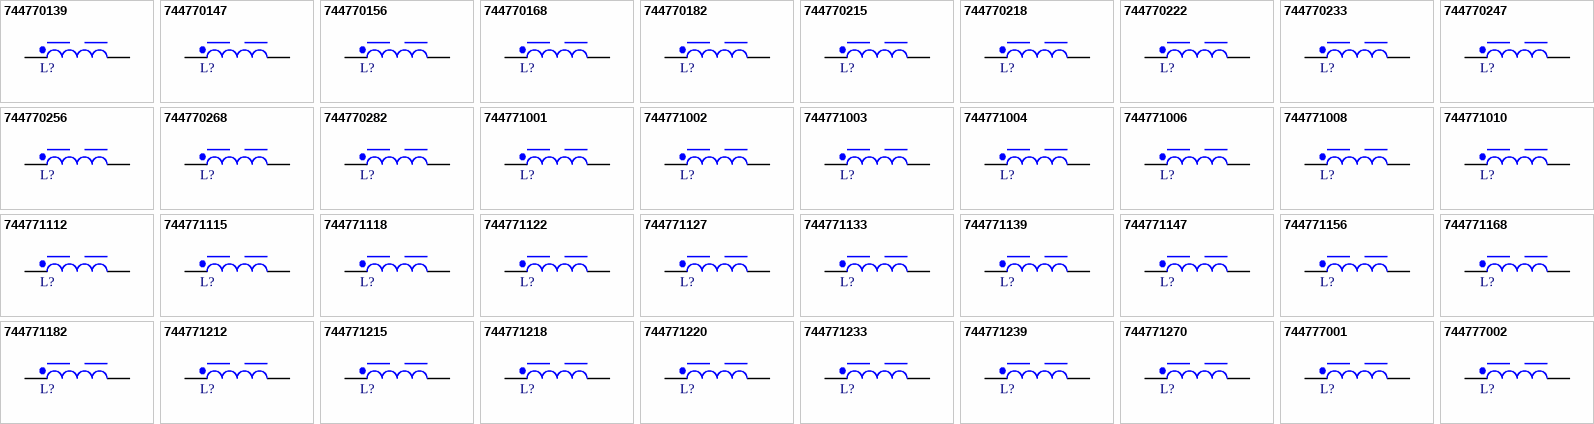
[diagram p1: symbols 744770139 to 744777002]

## 744770139
designator L?, comment 39uH, 3.3A  (value not drawn)
WE-PD SMT Power Inductor, size 1280, 39uH, 3.3A, 56mOhm; Manufacturer Part Number: 744770139; Manufacturer: Wurth Elektronik; Case/Size Code: 1280; DC Resistance: 47mOhm; Saturation Current: 3.6A; Self Resonant Frequency: 8.2MHz; Type: Standard; Category: Power Inductors; Match Code: WE-PD; ComponentLink1Description: Website Link; ComponentLink1URL: https://www.we-online.com/redexpert/article/744770139?ad; ComponentLink2Description: Datasheet Link; ComponentLink2URL: https://www.we-online.com/redexpert/spec/744770139?ad; Mount: Surface Mount; Operating Temperature Max: 125°C; Operating Temperature Min: -40°C; Packaging: Tape and Reel; Length: 12mm; Width: 12mm; Height: 8mm; DC Resistance Max: 56mOhm; Inductance: 39uH; Rated Current: 3.3A
footprint WE-PD_1280
simulation model 1280_744770139_39u
pins: 1, 2

## 744770147
designator L?, comment 47uH, 3A  (value not drawn)
WE-PD SMT Power Inductor, size 1280, 47uH, 3A, 64mOhm; Manufacturer Part Number: 744770147; Manufacturer: Wurth Elektronik; Case/Size Code: 1280; DC Resistance: 53mOhm; Saturation Current: 3.3A; Self Resonant Frequency: 7.9MHz; Type: Standard; Category: Power Inductors; Match Code: WE-PD; ComponentLink1Description: Website Link; ComponentLink1URL: https://www.we-online.com/redexpert/article/744770147?ad; ComponentLink2Description: Datasheet Link; ComponentLink2URL: https://www.we-online.com/redexpert/spec/744770147?ad; Mount: Surface Mount; Operating Temperature Max: 125°C; Operating Temperature Min: -40°C; Packaging: Tape and Reel; Length: 12mm; Width: 12mm; Height: 8mm; DC Resistance Max: 64mOhm; Inductance: 47uH; Rated Current: 3A
footprint WE-PD_1280
simulation model 1280_744770147_47u
pins: 1, 2

## 744770156
designator L?, comment 56uH, 2.8A  (value not drawn)
WE-PD SMT Power Inductor, size 1280, 56uH, 2.8A, 71mOhm; Manufacturer Part Number: 744770156; Manufacturer: Wurth Elektronik; Case/Size Code: 1280; DC Resistance: 59mOhm; Saturation Current: 3A; Self Resonant Frequency: 7.1MHz; Type: Standard; Category: Power Inductors; Match Code: WE-PD; ComponentLink1Description: Website Link; ComponentLink1URL: https://www.we-online.com/redexpert/article/744770156?ad; ComponentLink2Description: Datasheet Link; ComponentLink2URL: https://www.we-online.com/redexpert/spec/744770156?ad; Mount: Surface Mount; Operating Temperature Max: 125°C; Operating Temperature Min: -40°C; Packaging: Tape and Reel; Length: 12mm; Width: 12mm; Height: 8mm; DC Resistance Max: 71mOhm; Inductance: 56uH; Rated Current: 2.8A
footprint WE-PD_1280
simulation model 1280_744770156_56u
pins: 1, 2

## 744770168
designator L?, comment 68uH, 2.5A  (value not drawn)
WE-PD SMT Power Inductor, size 1280, 68uH, 2.5A, 90mOhm; Manufacturer Part Number: 744770168; Manufacturer: Wurth Elektronik; Case/Size Code: 1280; DC Resistance: 76mOhm; Saturation Current: 2.7A; Self Resonant Frequency: 6.4MHz; Type: Standard; Category: Power Inductors; Match Code: WE-PD; ComponentLink1Description: Website Link; ComponentLink1URL: https://www.we-online.com/redexpert/article/744770168?ad; ComponentLink2Description: Datasheet Link; ComponentLink2URL: https://www.we-online.com/redexpert/spec/744770168?ad; Mount: Surface Mount; Operating Temperature Max: 125°C; Operating Temperature Min: -40°C; Packaging: Tape and Reel; Length: 12mm; Width: 12mm; Height: 8mm; DC Resistance Max: 90mOhm; Inductance: 68uH; Rated Current: 2.5A
footprint WE-PD_1280
simulation model 1280_744770168_68u
pins: 1, 2

## 744770182
designator L?, comment 82uH, 2.3A  (value not drawn)
WE-PD SMT Power Inductor, size 1280, 82uH, 2.3A, 105mOhm; Manufacturer Part Number: 744770182; Manufacturer: Wurth Elektronik; Case/Size Code: 1280; DC Resistance: 86mOhm; Saturation Current: 2.5A; Self Resonant Frequency: 3.5MHz; Type: Standard; Category: Power Inductors; Match Code: WE-PD; ComponentLink1Description: Website Link; ComponentLink1URL: https://www.we-online.com/redexpert/article/744770182?ad; ComponentLink2Description: Datasheet Link; ComponentLink2URL: https://www.we-online.com/redexpert/spec/744770182?ad; Mount: Surface Mount; Operating Temperature Max: 125°C; Operating Temperature Min: -40°C; Packaging: Tape and Reel; Length: 12mm; Width: 12mm; Height: 8mm; DC Resistance Max: 105mOhm; Inductance: 82uH; Rated Current: 2.3A
footprint WE-PD_1280
simulation model 1280_744770182_82u
pins: 1, 2

## 744770215
designator L?, comment 150uH, 1.8A  (value not drawn)
WE-PD SMT Power Inductor, size 1280, 150uH, 1.8A, 175mOhm; Manufacturer Part Number: 744770215; Manufacturer: Wurth Elektronik; Case/Size Code: 1280; DC Resistance: 145mOhm; Self Resonant Frequency: 3MHz; Type: Standard; Category: Power Inductors; Match Code: WE-PD; ComponentLink1Description: Website Link; ComponentLink1URL: https://www.we-online.com/redexpert/article/744770215?ad; ComponentLink2Description: Datasheet Link; ComponentLink2URL: https://www.we-online.com/redexpert/spec/744770215?ad; Mount: Surface Mount; Operating Temperature Max: 125°C; Operating Temperature Min: -40°C; Packaging: Tape and Reel; Length: 12mm; Width: 12mm; Height: 8mm; DC Resistance Max: 175mOhm; Inductance: 150uH; Rated Current: 1.8A; Saturation Current: 1.8A
footprint WE-PD_1280
simulation model 1280_744770215_150u
pins: 1, 2

## 744770218
designator L?, comment 180uH, 1.6A  (value not drawn)
WE-PD SMT Power Inductor, size 1280, 180uH, 1.6A, 220mOhm; Manufacturer Part Number: 744770218; Manufacturer: Wurth Elektronik; Case/Size Code: 1280; DC Resistance: 182mOhm; Saturation Current: 1.7A; Self Resonant Frequency: 4.2MHz; Type: Standard; Category: Power Inductors; Match Code: WE-PD; ComponentLink1Description: Website Link; ComponentLink1URL: https://www.we-online.com/redexpert/article/744770218?ad; ComponentLink2Description: Datasheet Link; ComponentLink2URL: https://www.we-online.com/redexpert/spec/744770218?ad; Mount: Surface Mount; Operating Temperature Max: 125°C; Operating Temperature Min: -40°C; Packaging: Tape and Reel; Length: 12mm; Width: 12mm; Height: 8mm; DC Resistance Max: 220mOhm; Inductance: 180uH; Rated Current: 1.6A
footprint WE-PD_1280
simulation model 1280_744770218_180u
pins: 1, 2

## 744770222
designator L?, comment 220uH, 1.4A  (value not drawn)
WE-PD SMT Power Inductor, size 1280, 220uH, 1.4A, 275mOhm; Manufacturer Part Number: 744770222; Manufacturer: Wurth Elektronik; Case/Size Code: 1280; DC Resistance: 230mOhm; Saturation Current: 1.5A; Self Resonant Frequency: 3.8MHz; Type: Standard; Category: Power Inductors; Match Code: WE-PD; ComponentLink1Description: Website Link; ComponentLink1URL: https://www.we-online.com/redexpert/article/744770222?ad; ComponentLink2Description: Datasheet Link; ComponentLink2URL: https://www.we-online.com/redexpert/spec/744770222?ad; Mount: Surface Mount; Operating Temperature Max: 125°C; Operating Temperature Min: -40°C; Packaging: Tape and Reel; Length: 12mm; Width: 12mm; Height: 8mm; DC Resistance Max: 275mOhm; Inductance: 220uH; Rated Current: 1.4A
footprint WE-PD_1280
simulation model 1280_744770222_220u
pins: 1, 2

## 744770233
designator L?, comment 330uH, 1.1A  (value not drawn)
WE-PD SMT Power Inductor, size 1280, 330uH, 1.1A, 410mOhm; Manufacturer Part Number: 744770233; Manufacturer: Wurth Elektronik; Case/Size Code: 1280; DC Resistance: 345mOhm; Saturation Current: 1.2A; Self Resonant Frequency: 3MHz; Type: Standard; Category: Power Inductors; Match Code: WE-PD; ComponentLink1Description: Website Link; ComponentLink1URL: https://www.we-online.com/redexpert/article/744770233?ad; ComponentLink2Description: Datasheet Link; ComponentLink2URL: https://www.we-online.com/redexpert/spec/744770233?ad; Mount: Surface Mount; Operating Temperature Max: 125°C; Operating Temperature Min: -40°C; Packaging: Tape and Reel; Length: 12mm; Width: 12mm; Height: 8mm; DC Resistance Max: 410mOhm; Inductance: 330uH; Rated Current: 1.1A
footprint WE-PD_1280
simulation model 1280_744770233_330u
pins: 1, 2

## 744770247
designator L?, comment 470uH, 0.98A  (value not drawn)
WE-PD SMT Power Inductor, size 1280, 470uH, 0.98A, 540mOhm; Manufacturer Part Number: 744770247; Manufacturer: Wurth Elektronik; Case/Size Code: 1280; DC Resistance: 450mOhm; Saturation Current: 1.05A; Self Resonant Frequency: 2.6MHz; Type: Standard; Category: Power Inductors; Match Code: WE-PD; ComponentLink1Description: Website Link; ComponentLink1URL: https://www.we-online.com/redexpert/article/744770247?ad; ComponentLink2Description: Datasheet Link; ComponentLink2URL: https://www.we-online.com/redexpert/spec/744770247?ad; Mount: Surface Mount; Operating Temperature Max: 125°C; Operating Temperature Min: -40°C; Packaging: Tape and Reel; Length: 12mm; Width: 12mm; Height: 8mm; DC Resistance Max: 540mOhm; Inductance: 470uH; Rated Current: 0.98A
footprint WE-PD_1280
simulation model 1280_744770247_470u
pins: 1, 2

## 744770256
designator L?, comment 560uH, 0.87A  (value not drawn)
WE-PD SMT Power Inductor, size 1280, 560uH, 0.87A, 680mOhm; Manufacturer Part Number: 744770256; Manufacturer: Wurth Elektronik; Case/Size Code: 1280; DC Resistance: 570mOhm; Saturation Current: 0.95A; Self Resonant Frequency: 2.5MHz; Type: Standard; Category: Power Inductors; Match Code: WE-PD; ComponentLink1Description: Website Link; ComponentLink1URL: https://www.we-online.com/redexpert/article/744770256?ad; ComponentLink2Description: Datasheet Link; ComponentLink2URL: https://www.we-online.com/redexpert/spec/744770256?ad; Mount: Surface Mount; Operating Temperature Max: 125°C; Operating Temperature Min: -40°C; Packaging: Tape and Reel; Length: 12mm; Width: 12mm; Height: 8mm; DC Resistance Max: 680mOhm; Inductance: 560uH; Rated Current: 0.87A
footprint WE-PD_1280
simulation model 1280_744770256_560u
pins: 1, 2

## 744770268
designator L?, comment 680uH, 0.75A  (value not drawn)
WE-PD SMT Power Inductor, size 1280, 680uH, 0.75A, 930mOhm; Manufacturer Part Number: 744770268; Manufacturer: Wurth Elektronik; Case/Size Code: 1280; DC Resistance: 780mOhm; Saturation Current: 0.85A; Self Resonant Frequency: 2.2MHz; Type: Standard; Category: Power Inductors; Match Code: WE-PD; ComponentLink1Description: Website Link; ComponentLink1URL: https://www.we-online.com/redexpert/article/744770268?ad; ComponentLink2Description: Datasheet Link; ComponentLink2URL: https://www.we-online.com/redexpert/spec/744770268?ad; Mount: Surface Mount; Operating Temperature Max: 125°C; Operating Temperature Min: -40°C; Packaging: Tape and Reel; Length: 12mm; Width: 12mm; Height: 8mm; DC Resistance Max: 930mOhm; Inductance: 680uH; Rated Current: 0.75A
footprint WE-PD_1280
simulation model 1280_744770268_680u
pins: 1, 2

## 744770282
designator L?, comment 820uH, 0.7A  (value not drawn)
WE-PD SMT Power Inductor, size 1280, 820uH, 0.7A, 1050mOhm; Manufacturer Part Number: 744770282; Manufacturer: Wurth Elektronik; Case/Size Code: 1280; DC Resistance: 870mOhm; Saturation Current: 0.8A; Self Resonant Frequency: 2MHz; Type: Standard; Category: Power Inductors; Match Code: WE-PD; ComponentLink1Description: Website Link; ComponentLink1URL: https://www.we-online.com/redexpert/article/744770282?ad; ComponentLink2Description: Datasheet Link; ComponentLink2URL: https://www.we-online.com/redexpert/spec/744770282?ad; Mount: Surface Mount; Operating Temperature Max: 125°C; Operating Temperature Min: -40°C; Packaging: Tape and Reel; Length: 12mm; Width: 12mm; Height: 8mm; DC Resistance Max: 1050mOhm; Inductance: 820uH; Rated Current: 0.7A
footprint WE-PD_1280
simulation model 1280_744770282_820u
pins: 1, 2

## 744771001
designator L?, comment 1.5uH, 12A  (value not drawn)
WE-PD SMT Power Inductor, size 1260, 1.5uH, 12A, 6mOhm; Manufacturer Part Number: 744771001; Manufacturer: Wurth Elektronik; Case/Size Code: 1260; DC Resistance: 4mOhm; Saturation Current: 13.5A; Self Resonant Frequency: 60MHz; Type: Standard; Category: Power Inductors; Match Code: WE-PD; ComponentLink1Description: Website Link; ComponentLink1URL: https://www.we-online.com/redexpert/article/744771001?ad; ComponentLink2Description: Datasheet Link; ComponentLink2URL: https://www.we-online.com/redexpert/spec/744771001?ad; Mount: Surface Mount; Operating Temperature Max: 125°C; Operating Temperature Min: -40°C; Packaging: Tape and Reel; Length: 12mm; Width: 12mm; Height: 6mm; DC Resistance Max: 6mOhm; Inductance: 1.5uH; Rated Current: 12A
footprint WE-PD_1260
simulation model 1260_744771001_1.5u
pins: 1, 2

## 744771002
designator L?, comment 2.2uH, 10A  (value not drawn)
WE-PD SMT Power Inductor, size 1260, 2.2uH, 10A, 7mOhm; Manufacturer Part Number: 744771002; Manufacturer: Wurth Elektronik; Case/Size Code: 1260; DC Resistance: 5mOhm; Saturation Current: 11A; Self Resonant Frequency: 50MHz; Type: Standard; Category: Power Inductors; Match Code: WE-PD; ComponentLink1Description: Website Link; ComponentLink1URL: https://www.we-online.com/redexpert/article/744771002?ad; ComponentLink2Description: Datasheet Link; ComponentLink2URL: https://www.we-online.com/redexpert/spec/744771002?ad; Mount: Surface Mount; Operating Temperature Max: 125°C; Operating Temperature Min: -40°C; Packaging: Tape and Reel; Length: 12mm; Width: 12mm; Height: 6mm; DC Resistance Max: 7mOhm; Inductance: 2.2uH; Rated Current: 10A
footprint WE-PD_1260
simulation model 1260_744771002_2.2u
pins: 1, 2

## 744771003
designator L?, comment 3.5uH, 9.25A  (value not drawn)
WE-PD SMT Power Inductor, size 1260, 3.5uH, 9.25A, 8mOhm; Manufacturer Part Number: 744771003; Manufacturer: Wurth Elektronik; Case/Size Code: 1260; DC Resistance: 5.5mOhm; Saturation Current: 9.5A; Self Resonant Frequency: 40MHz; Type: Standard; Category: Power Inductors; Match Code: WE-PD; ComponentLink1Description: Website Link; ComponentLink1URL: https://www.we-online.com/redexpert/article/744771003?ad; ComponentLink2Description: Datasheet Link; ComponentLink2URL: https://www.we-online.com/redexpert/spec/744771003?ad; Mount: Surface Mount; Operating Temperature Max: 125°C; Operating Temperature Min: -40°C; Packaging: Tape and Reel; Length: 12mm; Width: 12mm; Height: 6mm; DC Resistance Max: 8mOhm; Inductance: 3.5uH; Rated Current: 9.25A
footprint WE-PD_1260
simulation model 1260_744771003_3.5u
pins: 1, 2